# Altium integrated library TI Data Converters Digital to Analog Converter.IntLib: 1533 symbols (part 16 of 99)
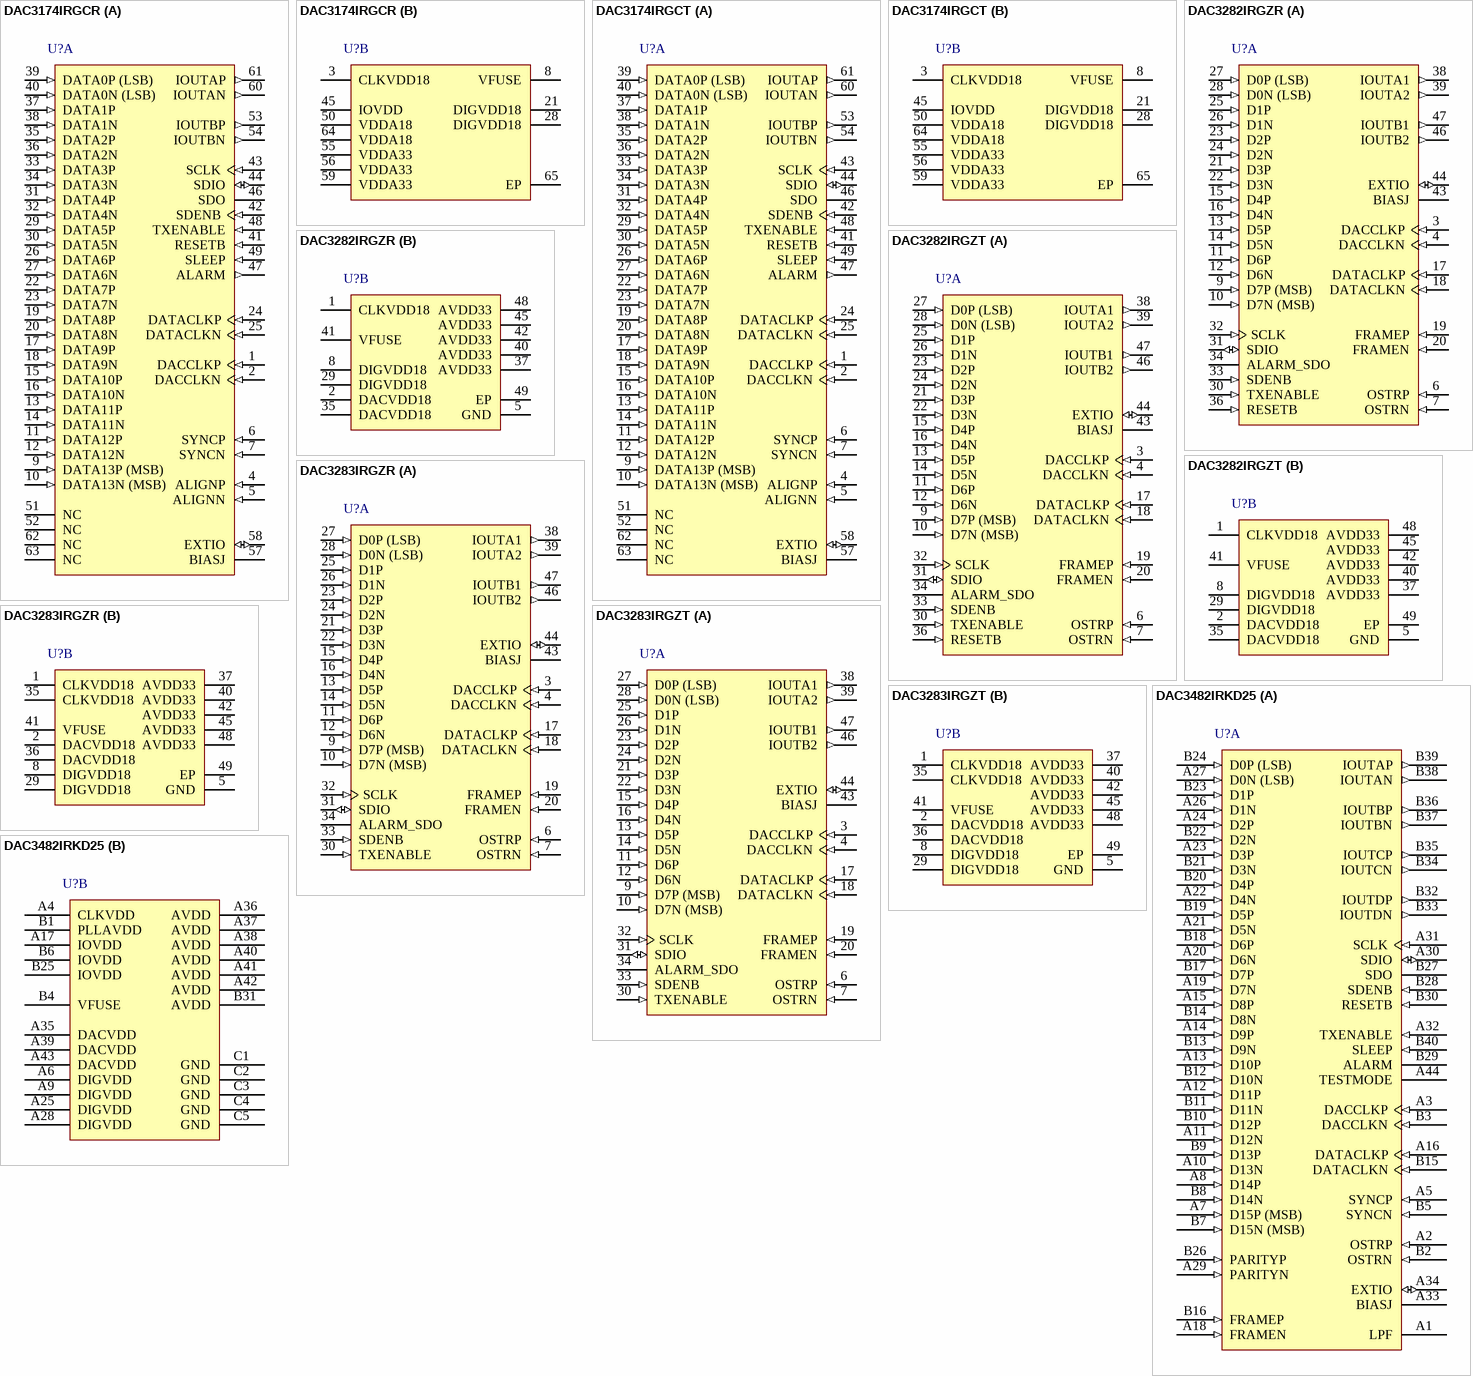
[diagram p88: symbols DAC3174IRGCR to DAC3482IRKD25]

## DAC3283IRGZR
designator U?
Dual 16-Bit 800 MSPS Communications DAC, -40 to 85 degC, 48-pin QFN (RGZ48), Green (RoHS & no Sb/Br); Manufacturer: Texas Instruments; PartNumber: DAC3283IRGZR; DAC Channels: 2; Interface: Parallel LVDS; Power Consumption(Typ)(mW): 1300; Resolution(Bits): 16; Settling Time(us): 0.0104; SFDR(dB): 85; SubFamily: High Speed DAC (>10MSPS); DatasheetVersion: SLAS693B; PackageVersion: 4204101/F, 06/2011; PackageReference: RGZ48-5600X5600TP; PackageDescription: 48-Lead, Plastic Flat Pack, Body Size 7 x 7 mm, Pitch 0.5 mm; Supplier 1: Digi-Key; Supplier Part Number 1: DAC3283IRGZR-ND; Supplier 2: Mouser; Supplier Part Number 2: 595-DAC3283IRGZR; Eco-Plan: Green (RoHS & no Sb/Br); Mounting Technology: Surface Mount; Code_JEDEC: MO-220; ComponentLink1Description: Manufacturer URL; ComponentLink1URL: http://www.ti.com/; ComponentLink2Description: Datasheet; ComponentLink2URL: http://www.ti.com/general/docs/lit/getliterature.tsp?genericPartNumber=DAC3283&fileType=pdf; ComponentLink3Description: Package Specification; ComponentLink3URL: http://www.ti.com/lit/ml/mpqf123e/mpqf123e.pdf
footprint TI-RGZ48-5600X5600TP_V (QFN, 48-Leads, Body 7x7mm, Pitch 0.5mm, Thermal Pad 5.6x5.6mm)
part A pins: 3 DACCLKP (in) "Positive external LVPECL clock input for DAC core with a self-bias of approximately CLKVDD18/2.", 4 DACCLKN (in) "Complementary external LVPECL clock input for DAC core. (see the DACCLKP description)", 6 OSTRP (in) "LVPECL output strobe positive input. This positive/negative pair is captured with the rising edge of DACCLKP/N. It is used to reset the clock dividers and for multiple DAC synchronization. If unused it can be left floating.", 7 OSTRN (in) "LVPECL output strobe negative input. (See the OSTRP description)", 9 D7P (MSB) (in) "LVDS positive input data bits 0 through 7. Each positive/negative LVDS pair has an internal 100 ohm termination resistor. Data format relative to DATACLKP/N clock is Double Data Rate (DDR) with two data transfers per (See Datasheet)", 10 D7N (MSB) (in) "LVDS negative input data bits 0 through 15. (See D[7:0]P description above) D7N is most significant data bit (MSB) - pin 10 D0N is least significant data bit (LSB) - pin 28", 11 D6P (in) "LVDS positive input data bits 0 through 7. Each positive/negative LVDS pair has an internal 100 ohm termination resistor. Data format relative to DATACLKP/N clock is Double Data Rate (DDR) with two data transfers per (See Datasheet)", 12 D6N (in) "LVDS negative input data bits 0 through 15. (See D[7:0]P description above) D7N is most significant data bit (MSB) - pin 10 D0N is least significant data bit (LSB) - pin 28", 13 D5P (in) "LVDS positive input data bits 0 through 7. Each positive/negative LVDS pair has an internal 100 ohm termination resistor. Data format relative to DATACLKP/N clock is Double Data Rate (DDR) with two data transfers per (See Datasheet)", 14 D5N (in) "LVDS negative input data bits 0 through 15. (See D[7:0]P description above) D7N is most significant data bit (MSB) - pin 10 D0N is least significant data bit (LSB) - pin 28", 15 D4P (in) "LVDS positive input data bits 0 through 7. Each positive/negative LVDS pair has an internal 100 ohm termination resistor. Data format relative to DATACLKP/N clock is Double Data Rate (DDR) with two data transfers per (See Datasheet)", 16 D4N (in) "LVDS negative input data bits 0 through 15. (See D[7:0]P description above) D7N is most significant data bit (MSB) - pin 10 D0N is least significant data bit (LSB) - pin 28", 17 DATACLKP (in) "LVDS positive input data clock. This positive/negative pair has an internal 100 ohm termination resistor. Input data D[7:0]P/N is latched on both edges of DATACLKP/N (Double Data Rate) with two data transfers input per (See Datasheet)", 18 DATACLKN (in) "LVDS negative input data clock. (See DATACLKP description)", 19 FRAMEP (in) "LVDS frame indicator positive input. This positive/negative pair has an internal 100 ohm termination resistor. This signal is captured with the rising edge of DATACLKP/N and used to indicate the beginning of the frame. It is (See Datasheet)", 20 FRAMEN (in) "LVDS frame indicator negative input. (See the FRAMEN description)", 21 D3P (in) "LVDS positive input data bits 0 through 7. Each positive/negative LVDS pair has an internal 100 ohm termination resistor. Data format relative to DATACLKP/N clock is Double Data Rate (DDR) with two data transfers per (See Datasheet)", 22 D3N (in) "LVDS negative input data bits 0 through 15. (See D[7:0]P description above) D7N is most significant data bit (MSB) - pin 10 D0N is least significant data bit (LSB) - pin 28", 23 D2P (in) "LVDS positive input data bits 0 through 7. Each positive/negative LVDS pair has an internal 100 ohm termination resistor. Data format relative to DATACLKP/N clock is Double Data Rate (DDR) with two data transfers per (See Datasheet)", 24 D2N (in) "LVDS negative input data bits 0 through 15. (See D[7:0]P description above) D7N is most significant data bit (MSB) - pin 10 D0N is least significant data bit (LSB) - pin 28", 25 D1P (in) "LVDS positive input data bits 0 through 7. Each positive/negative LVDS pair has an internal 100 ohm termination resistor. Data format relative to DATACLKP/N clock is Double Data Rate (DDR) with two data transfers per (See Datasheet)", 26 D1N (in) "LVDS negative input data bits 0 through 15. (See D[7:0]P description above) D7N is most significant data bit (MSB) - pin 10 D0N is least significant data bit (LSB) - pin 28", 27 D0P (LSB) (in) "LVDS positive input data bits 0 through 7. Each positive/negative LVDS pair has an internal 100 ohm termination resistor. Data format relative to DATACLKP/N clock is Double Data Rate (DDR) with two data transfers per (See Datasheet)", 28 D0N (LSB) (in) "LVDS negative input data bits 0 through 15. (See D[7:0]P description above) D7N is most significant data bit (MSB) - pin 10 D0N is least significant data bit (LSB) - pin 28", 30 TXENABLE (in) "1.8V CMOS active high input. TXENABLE must be high for the DATA to the DAC to be enabled. When TXENABLE is low, the digital logic section is forced to all 0, and any input data is ignored. Internal pull-down.", 31 SDIO (io) "1.8V CMOS serial interface data. Bi-directional in 3-pin mode (default) and 4-pin mode. Internal pull-down.", 32 SCLK (in) "1.8V CMOS serial interface clock. Internal pull-down.", 33 SDENB (in) "1.8V CMOS active low serial data enable, always an input to the DAC3282. Internal pull-up.", 34 ALARM_SDO (hiz) "1.8V CMOS output for ALARM condition. The ALARM output functionality is defined through the CONFIG6 register. Default polarity is active low, but can be changed to active high via CONFIG0 alarm_pol control bit. Optionally, (See Datasheet)", 38 IOUTA1 (out) "A-Channel DAC current output. An offset binary data pattern of 0x0000 at the DAC input results in a full scale current sink and the least positive voltage on the IOUTA1 pin. Similarly, a 0xFFFF data input results in a 0 mA (See Datasheet)", 39 IOUTA2 (out) "A-Channel DAC complementary current output. The IOUTA2 has the opposite behavior of the IOUTA1 described above. An input data value of 0x0000 results in a 0 mA sink and the most positive voltage on the IOUTA2 pin", 43 BIASJ "Full-scale output current bias. For 20mA full-scale output current, connect a 960 ohm resistor to GND.", 44 EXTIO (io) "Used as external reference input when internal reference is disabled through CONFIG25 extref_ena = ‘1’. Used as internal reference output when CONFIG25 extref_ena = ‘0’ (default). Requires a 0.1 uF dec(See Datasheet)", 46 IOUTB2 (out) "B-Channel DAC current output. Refer to IOUTA1 description above.", 47 IOUTB1 (out) "B-Channel DAC complementary current output. Refer to IOUTA2 description above."
part B pins: 1 CLKVDD18 (power) "Internal clock buffer supply voltage. (1.8 V) It is recommended to isolate this supply from DACVDD18 and DIGVDD18.", 2 DACVDD18 (power) "DAC core supply voltage. (1.8 V) It is recommended to isolate this supply from CLKVDD18 and DIGVDD18.", 5 GND (power) "Pin 5 and the Thermal Pad located on the bottom of the QFN package is ground for all supplies.", 8 DIGVDD18 (power) "Digital supply voltage. (1.8V) It is recommended to isolate this supply from CLKVDD18 and DACVDD18", 29 DIGVDD18 (power) "Digital supply voltage. (1.8V) It is recommended to isolate this supply from CLKVDD18 and DACVDD18", 35 CLKVDD18 (power) "Internal clock buffer supply voltage. (1.8 V) It is recommended to isolate this supply from DACVDD18 and DIGVDD18.", 36 DACVDD18 (power) "DAC core supply voltage. (1.8 V) It is recommended to isolate this supply from CLKVDD18 and DIGVDD18", 37 AVDD33 (power) "Analog supply voltage. (3.3 V)", 40 AVDD33 (power) "Analog supply voltage. (3.3 V)", 41 VFUSE (power) "Digital supply voltage. (1.8V) This supply pin is also used for factory fuse programming. Connect to DACVDD18 pins for normal operation.", 42 AVDD33 (power) "Analog supply voltage. (3.3 V)", 45 AVDD33 (power) "Analog supply voltage. (3.3 V)", 48 AVDD33 (power) "Analog supply voltage. (3.3 V)", 49 EP (power) "Pin 5 and the Thermal Pad located on the bottom of the QFN package is ground for all supplies."

## DAC3283IRGZT
designator U?
Dual 16-Bit 800 MSPS Communications DAC, -40 to 85 degC, 48-pin QFN (RGZ48), Green (RoHS & no Sb/Br); Manufacturer: Texas Instruments; PartNumber: DAC3283IRGZT; DAC Channels: 2; Interface: Parallel LVDS; Power Consumption(Typ)(mW): 1300; Resolution(Bits): 16; Settling Time(us): 0.0104; SFDR(dB): 85; SubFamily: High Speed DAC (>10MSPS); DatasheetVersion: SLAS693B; PackageVersion: 4204101/F, 06/2011; PackageReference: RGZ48-5600X5600TP; PackageDescription: 48-Lead, Plastic Flat Pack, Body Size 7 x 7 mm, Pitch 0.5 mm; Supplier 1: Digi-Key; Supplier Part Number 1: 296-27251-2-ND; Supplier 2: Digi-Key; Supplier Part Number 2: 296-27251-1-ND; Supplier 3: Digi-Key; Supplier Part Number 3: 296-27251-6-ND; Supplier 4: Farnell; Supplier Part Number 4: 1815785; Supplier 5: Newark; Supplier Part Number 5: 74R0559; Supplier 6: Mouser; Supplier Part Number 6: 595-DAC3283IRGZT; Eco-Plan: Green (RoHS & no Sb/Br); Mounting Technology: Surface Mount; Code_JEDEC: MO-220; ComponentLink1Description: Manufacturer URL; ComponentLink1URL: http://www.ti.com/; ComponentLink2Description: Datasheet; ComponentLink2URL: http://www.ti.com/general/docs/lit/getliterature.tsp?genericPartNumber=DAC3283&fileType=pdf; ComponentLink3Description: Package Specification; ComponentLink3URL: http://www.ti.com/lit/ml/mpqf123e/mpqf123e.pdf
footprint TI-RGZ48-5600X5600TP_V (QFN, 48-Leads, Body 7x7mm, Pitch 0.5mm, Thermal Pad 5.6x5.6mm)
part A pins: 3 DACCLKP (in) "Positive external LVPECL clock input for DAC core with a self-bias of approximately CLKVDD18/2.", 4 DACCLKN (in) "Complementary external LVPECL clock input for DAC core. (see the DACCLKP description)", 6 OSTRP (in) "LVPECL output strobe positive input. This positive/negative pair is captured with the rising edge of DACCLKP/N. It is used to reset the clock dividers and for multiple DAC synchronization. If unused it can be left floating.", 7 OSTRN (in) "LVPECL output strobe negative input. (See the OSTRP description)", 9 D7P (MSB) (in) "LVDS positive input data bits 0 through 7. Each positive/negative LVDS pair has an internal 100 ohm termination resistor. Data format relative to DATACLKP/N clock is Double Data Rate (DDR) with two data transfers per (See Datasheet)", 10 D7N (MSB) (in) "LVDS negative input data bits 0 through 15. (See D[7:0]P description above) D7N is most significant data bit (MSB) - pin 10 D0N is least significant data bit (LSB) - pin 28", 11 D6P (in) "LVDS positive input data bits 0 through 7. Each positive/negative LVDS pair has an internal 100 ohm termination resistor. Data format relative to DATACLKP/N clock is Double Data Rate (DDR) with two data transfers per (See Datasheet)", 12 D6N (in) "LVDS negative input data bits 0 through 15. (See D[7:0]P description above) D7N is most significant data bit (MSB) - pin 10 D0N is least significant data bit (LSB) - pin 28", 13 D5P (in) "LVDS positive input data bits 0 through 7. Each positive/negative LVDS pair has an internal 100 ohm termination resistor. Data format relative to DATACLKP/N clock is Double Data Rate (DDR) with two data transfers per (See Datasheet)", 14 D5N (in) "LVDS negative input data bits 0 through 15. (See D[7:0]P description above) D7N is most significant data bit (MSB) - pin 10 D0N is least significant data bit (LSB) - pin 28", 15 D4P (in) "LVDS positive input data bits 0 through 7. Each positive/negative LVDS pair has an internal 100 ohm termination resistor. Data format relative to DATACLKP/N clock is Double Data Rate (DDR) with two data transfers per (See Datasheet)", 16 D4N (in) "LVDS negative input data bits 0 through 15. (See D[7:0]P description above) D7N is most significant data bit (MSB) - pin 10 D0N is least significant data bit (LSB) - pin 28", 17 DATACLKP (in) "LVDS positive input data clock. This positive/negative pair has an internal 100 ohm termination resistor. Input data D[7:0]P/N is latched on both edges of DATACLKP/N (Double Data Rate) with two data transfers input per (See Datasheet)", 18 DATACLKN (in) "LVDS negative input data clock. (See DATACLKP description)", 19 FRAMEP (in) "LVDS frame indicator positive input. This positive/negative pair has an internal 100 ohm termination resistor. This signal is captured with the rising edge of DATACLKP/N and used to indicate the beginning of the frame. It is (See Datasheet)", 20 FRAMEN (in) "LVDS frame indicator negative input. (See the FRAMEN description)", 21 D3P (in) "LVDS positive input data bits 0 through 7. Each positive/negative LVDS pair has an internal 100 ohm termination resistor. Data format relative to DATACLKP/N clock is Double Data Rate (DDR) with two data transfers per (See Datasheet)", 22 D3N (in) "LVDS negative input data bits 0 through 15. (See D[7:0]P description above) D7N is most significant data bit (MSB) - pin 10 D0N is least significant data bit (LSB) - pin 28", 23 D2P (in) "LVDS positive input data bits 0 through 7. Each positive/negative LVDS pair has an internal 100 ohm termination resistor. Data format relative to DATACLKP/N clock is Double Data Rate (DDR) with two data transfers per (See Datasheet)", 24 D2N (in) "LVDS negative input data bits 0 through 15. (See D[7:0]P description above) D7N is most significant data bit (MSB) - pin 10 D0N is least significant data bit (LSB) - pin 28", 25 D1P (in) "LVDS positive input data bits 0 through 7. Each positive/negative LVDS pair has an internal 100 ohm termination resistor. Data format relative to DATACLKP/N clock is Double Data Rate (DDR) with two data transfers per (See Datasheet)", 26 D1N (in) "LVDS negative input data bits 0 through 15. (See D[7:0]P description above) D7N is most significant data bit (MSB) - pin 10 D0N is least significant data bit (LSB) - pin 28", 27 D0P (LSB) (in) "LVDS positive input data bits 0 through 7. Each positive/negative LVDS pair has an internal 100 ohm termination resistor. Data format relative to DATACLKP/N clock is Double Data Rate (DDR) with two data transfers per (See Datasheet)", 28 D0N (LSB) (in) "LVDS negative input data bits 0 through 15. (See D[7:0]P description above) D7N is most significant data bit (MSB) - pin 10 D0N is least significant data bit (LSB) - pin 28", 30 TXENABLE (in) "1.8V CMOS active high input. TXENABLE must be high for the DATA to the DAC to be enabled. When TXENABLE is low, the digital logic section is forced to all 0, and any input data is ignored. Internal pull-down.", 31 SDIO (io) "1.8V CMOS serial interface data. Bi-directional in 3-pin mode (default) and 4-pin mode. Internal pull-down.", 32 SCLK (in) "1.8V CMOS serial interface clock. Internal pull-down.", 33 SDENB (in) "1.8V CMOS active low serial data enable, always an input to the DAC3282. Internal pull-up.", 34 ALARM_SDO (hiz) "1.8V CMOS output for ALARM condition. The ALARM output functionality is defined through the CONFIG6 register. Default polarity is active low, but can be changed to active high via CONFIG0 alarm_pol control bit. Optionally, (See Datasheet)", 38 IOUTA1 (out) "A-Channel DAC current output. An offset binary data pattern of 0x0000 at the DAC input results in a full scale current sink and the least positive voltage on the IOUTA1 pin. Similarly, a 0xFFFF data input results in a 0 mA (See Datasheet)", 39 IOUTA2 (out) "A-Channel DAC complementary current output. The IOUTA2 has the opposite behavior of the IOUTA1 described above. An input data value of 0x0000 results in a 0 mA sink and the most positive voltage on the IOUTA2 pin", 43 BIASJ "Full-scale output current bias. For 20mA full-scale output current, connect a 960 ohm resistor to GND.", 44 EXTIO (io) "Used as external reference input when internal reference is disabled through CONFIG25 extref_ena = ‘1’. Used as internal reference output when CONFIG25 extref_ena = ‘0’ (default). Requires a 0.1 uF dec(See Datasheet)", 46 IOUTB2 (out) "B-Channel DAC current output. Refer to IOUTA1 description above.", 47 IOUTB1 (out) "B-Channel DAC complementary current output. Refer to IOUTA2 description above."
part B pins: 1 CLKVDD18 (power) "Internal clock buffer supply voltage. (1.8 V) It is recommended to isolate this supply from DACVDD18 and DIGVDD18.", 2 DACVDD18 (power) "DAC core supply voltage. (1.8 V) It is recommended to isolate this supply from CLKVDD18 and DIGVDD18.", 5 GND (power) "Pin 5 and the Thermal Pad located on the bottom of the QFN package is ground for all supplies.", 8 DIGVDD18 (power) "Digital supply voltage. (1.8V) It is recommended to isolate this supply from CLKVDD18 and DACVDD18", 29 DIGVDD18 (power) "Digital supply voltage. (1.8V) It is recommended to isolate this supply from CLKVDD18 and DACVDD18", 35 CLKVDD18 (power) "Internal clock buffer supply voltage. (1.8 V) It is recommended to isolate this supply from DACVDD18 and DIGVDD18.", 36 DACVDD18 (power) "DAC core supply voltage. (1.8 V) It is recommended to isolate this supply from CLKVDD18 and DIGVDD18", 37 AVDD33 (power) "Analog supply voltage. (3.3 V)", 40 AVDD33 (power) "Analog supply voltage. (3.3 V)", 41 VFUSE (power) "Digital supply voltage. (1.8V) This supply pin is also used for factory fuse programming. Connect to DACVDD18 pins for normal operation.", 42 AVDD33 (power) "Analog supply voltage. (3.3 V)", 45 AVDD33 (power) "Analog supply voltage. (3.3 V)", 48 AVDD33 (power) "Analog supply voltage. (3.3 V)", 49 EP (power) "Pin 5 and the Thermal Pad located on the bottom of the QFN package is ground for all supplies."

## DAC3482IRKD25
designator U?
2-Channel 16-Bit 1.25 GSPS DAC, -40 to 85 degC, 88-pin QFN (RKD88), Green (RoHS & no Sb/Br); Manufacturer: Texas Instruments; PartNumber: DAC3482IRKD25; DAC Channels: 2; Interface: Parallel LVDS; Power Consumption(Typ)(mW): 800; Resolution(Bits): 16; Settling Time(us): 0.01; SFDR(dB): 82; SubFamily: High Speed DAC (>10MSPS); DatasheetVersion: SLAS748D; PackageVersion: 4210251/A, 04/2009; PackageReference: RKD88-6300X6300TP; PackageDescription: 88-Pin Plastic Quad Flatpack No-Lead, Body 9 x 9 mm, Pitch 0.6 mm; Supplier 1: Digi-Key; Supplier Part Number 1: 296-30057-2-ND; Supplier 2: Digi-Key; Supplier Part Number 2: 296-30057-1-ND; Supplier 3: Digi-Key; Supplier Part Number 3: 296-30057-6-ND; Supplier 4: Mouser; Supplier Part Number 4: 595-DAC3482IRKD25; Eco-Plan: Green (RoHS & no Sb/Br); Mounting Technology: Surface Mount; ComponentLink1Description: Manufacturer URL; ComponentLink1URL: http://www.ti.com/; ComponentLink2Description: Datasheet; ComponentLink2URL: http://www.ti.com/general/docs/lit/getliterature.tsp?genericPartNumber=DAC3482&fileType=pdf; ComponentLink3Description: Package Specification; ComponentLink3URL: http://www.ti.com/litv/pdf/mpqf242
footprint TI-RKD88-6300X6300TP_V (QFN, 88-Leads, Body 9x9mm, Pitch 0.6mm, Thermal Pad 6.3x6.3mm)
part A pins: A1 LPF "PLL loop filter connection. If not using the clock multiplying PLL, the LPF pin can be left unconnected.", A2 OSTRP (in) "LVPECL output strobe positive input. This positive/negative pair is captured with the rising edge of DACCLKP/N. It is used for multiple DAC synchronization. If unused it can be left unconnected.", A3 DACCLKP (in) "Positive external LVPECL clock input for DAC core with a self-bias.", A5 SYNCP (in) "Optional LVDS SYNC positive input. The SYNCP/N LVDS pair has an internal 100 ohm termination resistor. If unused it can be left unconnected.", A7 D15P (MSB) (in) "LVDS positive input data bits 0 through 15. Internal 100 ohm termination resistor. Data format relative to DATACLKP/N clock is Double Data Rate (DDR). D15P is most significant data bit (MSB) D0P is least significant data bit (See Datasheet)", A8 D14P (in) "LVDS positive input data bits 0 through 15. Internal 100 ohm termination resistor. Data format relative to DATACLKP/N clock is Double Data Rate (DDR). D15P is most significant data bit (MSB) D0P is least significant data bit (See Datasheet)", A10 D13N (in) "LVDS negative input data bits 0 through 15. (See D[15:0]P description above)", A11 D12N (in) "LVDS negative input data bits 0 through 15. (See D[15:0]P description above)", A12 D11P (in) "LVDS positive input data bits 0 through 15. Internal 100 ohm termination resistor. Data format relative to DATACLKP/N clock is Double Data Rate (DDR). D15P is most significant data bit (MSB) D0P is least significant data bit (See Datasheet)", A13 D10P (in) "LVDS positive input data bits 0 through 15. Internal 100 ohm termination resistor. Data format relative to DATACLKP/N clock is Double Data Rate (DDR). D15P is most significant data bit (MSB) D0P is least significant data bit (See Datasheet)", A14 D9P (in) "LVDS positive input data bits 0 through 15. Internal 100 ohm termination resistor. Data format relative to DATACLKP/N clock is Double Data Rate (DDR). D15P is most significant data bit (MSB) D0P is least significant data bit (See Datasheet)", A15 D8P (in) "LVDS positive input data bits 0 through 15. Internal 100 ohm termination resistor. Data format relative to DATACLKP/N clock is Double Data Rate (DDR). D15P is most significant data bit (MSB) D0P is least significant data bit (See Datasheet)", A16 DATACLKP (in) "LVDS positive input data clock. Internal 100 ohm termination resistor. Input data D[15:0]P/N is latched on both edges of DATACLKP/N (Double Data Rate).", A18 FRAMEN (in) "LVDS frame indicator negative input. (See the FRAMEP description)", A19 D7N (in) "LVDS negative input data bits 0 through 15. (See D[15:0]P description above)", A20 D6N (in) "LVDS negative input data bits 0 through 15. (See D[15:0]P description above)", A21 D5N (in) "LVDS negative input data bits 0 through 15. (See D[15:0]P description above)", A22 D4N (in) "LVDS negative input data bits 0 through 15. (See D[15:0]P description above)", A23 D3P (in) "LVDS positive input data bits 0 through 15. Internal 100 ohm termination resistor. Data format relative to DATACLKP/N clock is Double Data Rate (DDR). D15P is most significant data bit (MSB) D0P is least significant data bit (See Datasheet)", A24 D2P (in) "LVDS positive input data bits 0 through 15. Internal 100 ohm termination resistor. Data format relative to DATACLKP/N clock is Double Data Rate (DDR). D15P is most significant data bit (MSB) D0P is least significant data bit (See Datasheet)", A26 D1N (in) "LVDS negative input data bits 0 through 15. (See D[15:0]P description above)", A27 D0N (LSB) (in) "LVDS negative input data bits 0 through 15. (See D[15:0]P description above)", A29 PARITYN (in) "Optional LVDS negative input parity bit.", A30 SDIO (io) "Serial interface data. Bi-directional in 3-pin mode (default) and uni-directional 4-pin mode. Internal pull-down.", A31 SCLK (in) "Serial interface clock. Internal pull-down.", A32 TXENABLE (in) "Transmit enable active high input. Internal pull-down. To enable analog output data transmission, set sif_txenable in register config3 to “1” or pull CMOS TXENABLE pin to high. To disable analog output, set sif_txena(See Datasheet)", A33 BIASJ "Full-scale output current bias. For 30mA full-scale output current, connect 1.28 kohm to ground. Change the full-scale output current through coarse_dac(3:0) in config3, bit<15:12>", A34 EXTIO (io) "Used as external reference input when internal reference is disabled through config27 extref_ena = ‘1’. Used as internal reference output when config27 extref_ena = ‘0’ (default). Requires a 0.1 uF dec(See Datasheet)", A44 TESTMODE "This pin is used for factory testing. Internal pull-down. Leave unconnected for normal operation.", B2 OSTRN (in) "LVPECL output strobe negative input. (See the OSTRP description)", B3 DACCLKN (in) "Complementary external LVPECL clock input for DAC core. (see the DACCLKP description)", B5 SYNCN (in) "Optional LVDS SYNC negative input.", B7 D15N (MSB) (in) "LVDS negative input data bits 0 through 15. (See D[15:0]P description above)", B8 D14N (in) "LVDS negative input data bits 0 through 15. (See D[15:0]P description above)", B9 D13P (in) "LVDS positive input data bits 0 through 15. Internal 100 ohm termination resistor. Data format relative to DATACLKP/N clock is Double Data Rate (DDR). D15P is most significant data bit (MSB) D0P is least significant data bit (See Datasheet)", B10 D12P (in) "LVDS positive input data bits 0 through 15. Internal 100 ohm termination resistor. Data format relative to DATACLKP/N clock is Double Data Rate (DDR). D15P is most significant data bit (MSB) D0P is least significant data bit (See Datasheet)", B11 D11N (in) "LVDS negative input data bits 0 through 15. (See D[15:0]P description above)", B12 D10N (in) "LVDS negative input data bits 0 through 15. (See D[15:0]P description above)", B13 D9N (in) "LVDS negative input data bits 0 through 15. (See D[15:0]P description above)", B14 D8N (in) "LVDS negative input data bits 0 through 15. (See D[15:0]P description above)", B15 DATACLKN (in) "LVDS negative input data clock. (See DATACLKP description)", B16 FRAMEP (in) "LVDS frame indicator positive input. Internal 100 ohm termination resistor. The main functions of this input are to reset the FIFO pointer or to be used as a syncing source. These two functions are captured with the rising (See Datasheet)", B17 D7P (in) "LVDS positive input data bits 0 through 15. Internal 100 ohm termination resistor. Data format relative to DATACLKP/N clock is Double Data Rate (DDR). D15P is most significant data bit (MSB) D0P is least significant data bit (See Datasheet)", B18 D6P (in) "LVDS positive input data bits 0 through 15. Internal 100 ohm termination resistor. Data format relative to DATACLKP/N clock is Double Data Rate (DDR). D15P is most significant data bit (MSB) D0P is least significant data bit (See Datasheet)", B19 D5P (in) "LVDS positive input data bits 0 through 15. Internal 100 ohm termination resistor. Data format relative to DATACLKP/N clock is Double Data Rate (DDR). D15P is most significant data bit (MSB) D0P is least significant data bit (See Datasheet)", B20 D4P (in) "LVDS positive input data bits 0 through 15. Internal 100 ohm termination resistor. Data format relative to DATACLKP/N clock is Double Data Rate (DDR). D15P is most significant data bit (MSB) D0P is least significant data bit (See Datasheet)", B21 D3N (in) "LVDS negative input data bits 0 through 15. (See D[15:0]P description above)", B22 D2N (in) "LVDS negative input data bits 0 through 15. (See D[15:0]P description above)", B23 D1P (in) "LVDS positive input data bits 0 through 15. Internal 100 ohm termination resistor. Data format relative to DATACLKP/N clock is Double Data Rate (DDR). D15P is most significant data bit (MSB) D0P is least significant data bit (See Datasheet)", B24 D0P (LSB) (in) "LVDS positive input data bits 0 through 15. Internal 100 ohm termination resistor. Data format relative to DATACLKP/N clock is Double Data Rate (DDR). D15P is most significant data bit (MSB) D0P is least significant data bit (See Datasheet)", B26 PARITYP (in) "Optional LVDS positive input parity bit. The PARITYP/N LVDS pair has an internal 100 ohm termination resistor. If unused it can be left unconnected.", B27 SDO (hiz) "Uni-directional serial interface data in 4-pin mode. The SDO pin is tri-stated in 3-pin interface mode (default).", B28 SDENB (in) "Active low serial data enable, always an input to the DAC3484. Internal pull-up.", B29 ALARM (hiz) "CMOS output for ALARM condition. The ALARM output functionality is defined through the config7 register. Default polarity is active high, but can be changed to active low via config0 alarm_out_pol control bit", B30 RESETB (in) "Active low input for chip RESET, which resets all the programming registers to their default state. Internal pull-up.", B32 IOUTDP (out) "D-Channel DAC current output. Connect directly to ground if unused.", B33 IOUTDN (out) "D-Channel DAC complementary current output. Connect directly to ground if unused.", B34 IOUTCN (out) "C-Channel DAC complementary current output. Connect directly to ground if unused.", B35 IOUTCP (out) "C-Channel DAC current output. Connect directly to ground if unused.", B36 IOUTBP (out) "B-Channel DAC current output. Connect directly to ground if unused.", B37 IOUTBN (out) "B-Channel DAC complementary current output. Connect directly to ground if unused.", B38 IOUTAN (out) "A-Channel DAC complementary current output. Connect directly to ground if unused.", B39 IOUTAP (out) "A-Channel DAC current output. Connect directly to ground if unused.", B40 SLEEP (in) "Active high asynchronous hardware power-down input. Internal pull-down."
part B pins: A4 CLKVDD (power) "Internal clock buffer supply voltage. (1.2 V) It is recommended to isolate this supply from DIGVDD and DACVDD.", A6 DIGVDD (power) "Digital supply voltage. (1.2 V). It is recommended to isolate this supply from CLKVDD and DACVDD.", A9 DIGVDD (power) "Digital supply voltage. (1.2 V). It is recommended to isolate this supply from CLKVDD and DACVDD.", A17 IOVDD (power) "Supply voltage for all digital I/O. (3.3 V)", A25 DIGVDD (power) "Digital supply voltage. (1.2 V). It is recommended to isolate this supply from CLKVDD and DACVDD.", A28 DIGVDD (power) "Digital supply voltage. (1.2 V). It is recommended to isolate this supply from CLKVDD and DACVDD.", A35 DACVDD (power) "DAC core supply voltage. (1.2 V). It is recommended to isolate this supply from CLKVDD and DIGVDD.", A36 AVDD (power) "Analog supply voltage. (3.3 V)", A37 AVDD (power) "Analog supply voltage. (3.3 V)", A38 AVDD (power) "Analog supply voltage. (3.3 V)", A39 DACVDD (power) "DAC core supply voltage. (1.2 V). It is recommended to isolate this supply from CLKVDD and DIGVDD.", A40 AVDD (power) "Analog supply voltage. (3.3 V)", A41 AVDD (power) "Analog supply voltage. (3.3 V)", A42 AVDD (power) "Analog supply voltage. (3.3 V)", A43 DACVDD (power) "DAC core supply voltage. (1.2 V). It is recommended to isolate this supply from CLKVDD and DIGVDD.", B1 PLLAVDD (power) "PLL analog supply voltage. (3.3 V)", B4 VFUSE (power) "Digital supply voltage. This supply pin is also used for factory fuse programming. Connect to DACVDD for normal operation.", B6 IOVDD (power) "Supply voltage for all digital I/O. (3.3 V)", B25 IOVDD (power) "Supply voltage for all digital I/O. (3.3 V)", B31 AVDD (power) "Analog supply voltage. (3.3 V)", C1 GND (power) "These pins are ground for all supplies.", C2 GND (power) "These pins are ground for all supplies.", C3 GND (power) "These pins are ground for all supplies.", C4 GND (power) "These pins are ground for all supplies.", C5 GND (power) "These pins are ground for all supplies."

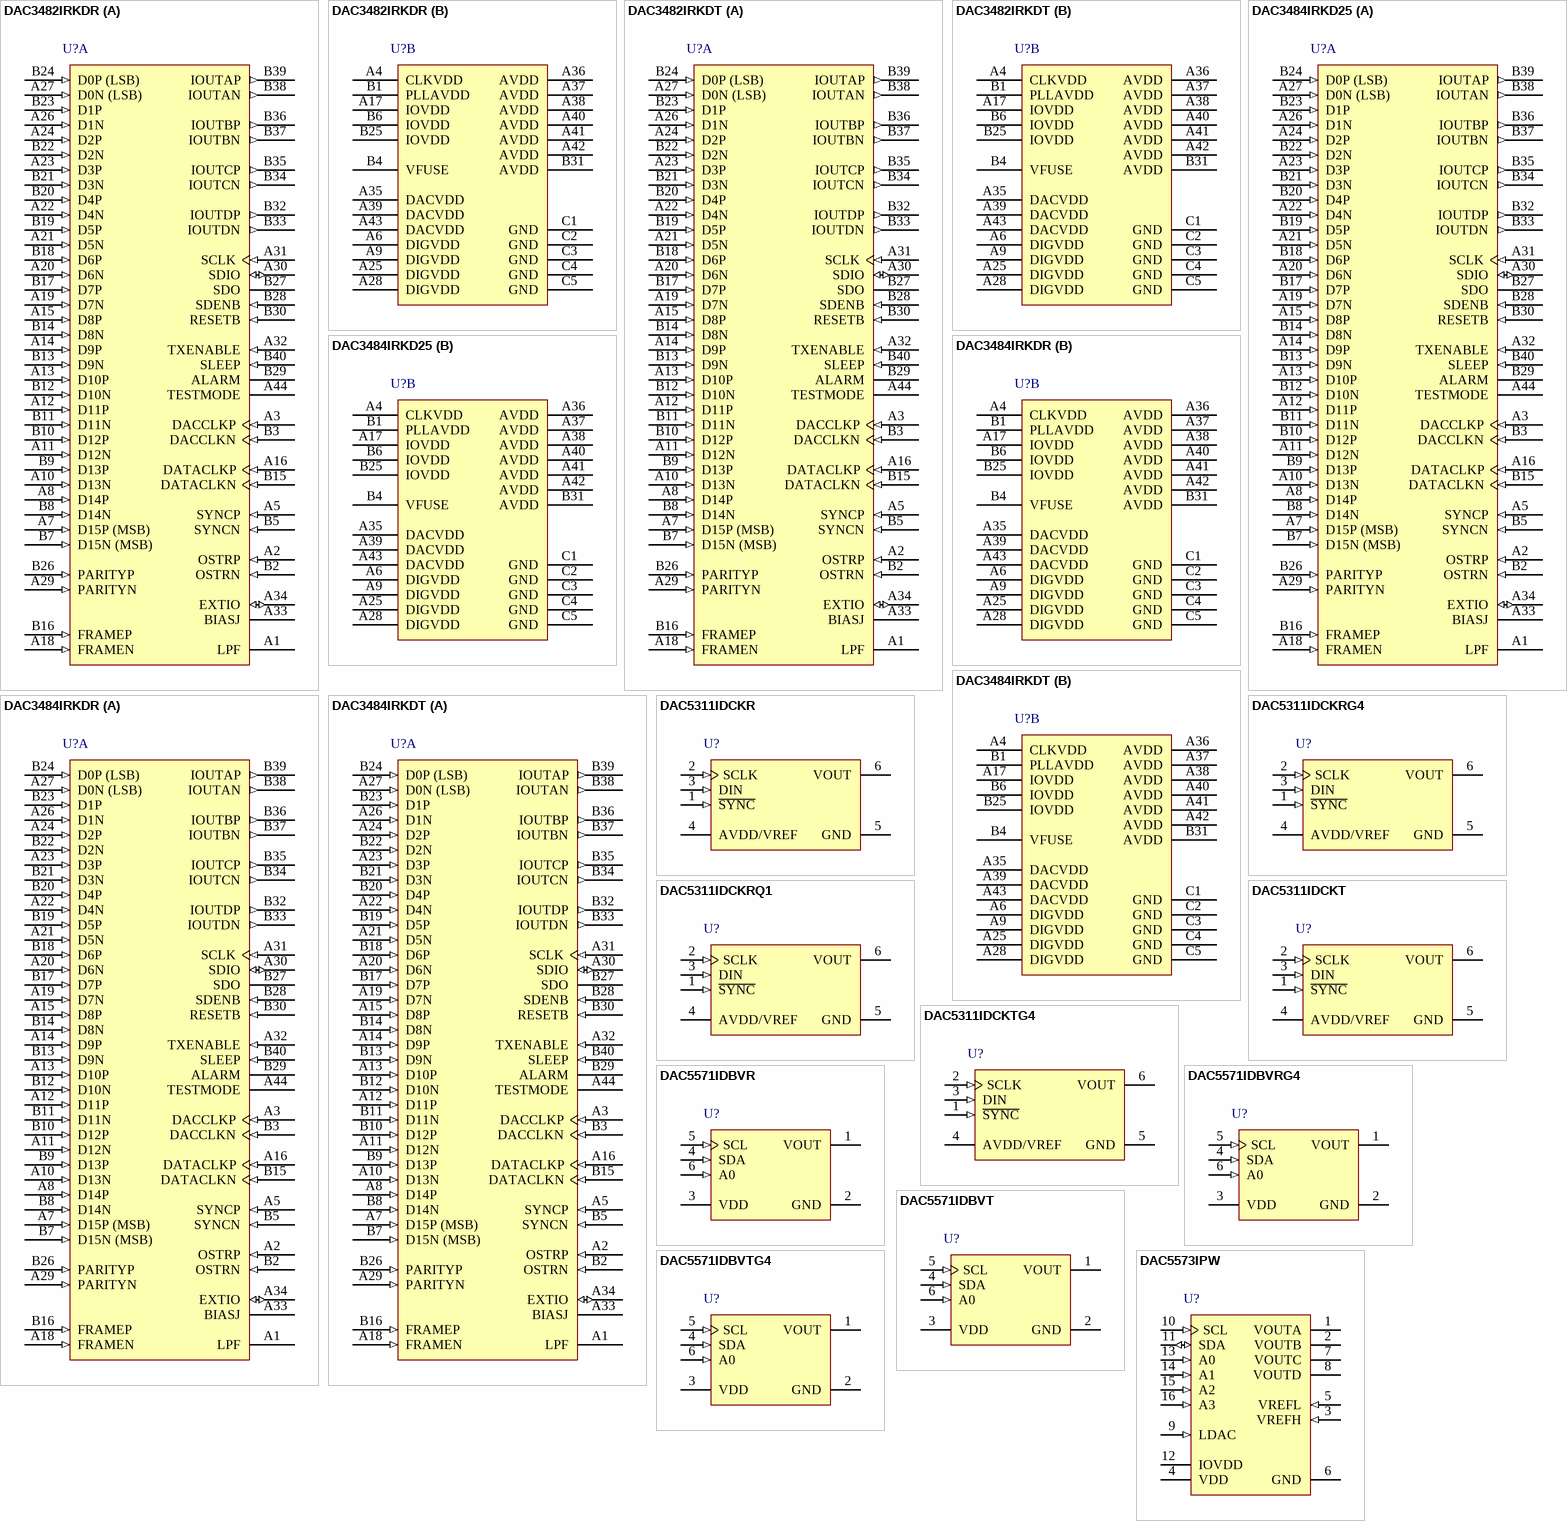
[diagram p13: symbols DAC3482IRKDR to DAC5573IPW]

## DAC3482IRKDR
designator U?
2-Channel 16-Bit 1.25 GSPS DAC, -40 to 85 degC, 88-pin QFN (RKD88), Green (RoHS & no Sb/Br); Manufacturer: Texas Instruments; PartNumber: DAC3482IRKDR; DAC Channels: 2; Interface: Parallel LVDS; Power Consumption(Typ)(mW): 800; Resolution(Bits): 16; Settling Time(us): 0.01; SFDR(dB): 82; SubFamily: High Speed DAC (>10MSPS); DatasheetVersion: SLAS748D; PackageVersion: 4210251/A, 04/2009; PackageReference: RKD88-6300X6300TP; PackageDescription: 88-Pin Plastic Quad Flatpack No-Lead, Body 9 x 9 mm, Pitch 0.6 mm; Supplier 1: Digi-Key; Supplier Part Number 1: DAC3482IRKDR-ND; Supplier 2: Newark; Supplier Part Number 2: 51T1816; Supplier 3: Mouser; Supplier Part Number 3: 595-DAC3482IRKDR; Eco-Plan: Green (RoHS & no Sb/Br); Mounting Technology: Surface Mount; ComponentLink1Description: Manufacturer URL; ComponentLink1URL: http://www.ti.com/; ComponentLink2Description: Datasheet; ComponentLink2URL: http://www.ti.com/general/docs/lit/getliterature.tsp?genericPartNumber=DAC3482&fileType=pdf; ComponentLink3Description: Package Specification; ComponentLink3URL: http://www.ti.com/litv/pdf/mpqf242
footprint TI-RKD88-6300X6300TP_V (QFN, 88-Leads, Body 9x9mm, Pitch 0.6mm, Thermal Pad 6.3x6.3mm)
part A pins: A1 LPF "PLL loop filter connection. If not using the clock multiplying PLL, the LPF pin can be left unconnected.", A2 OSTRP (in) "LVPECL output strobe positive input. This positive/negative pair is captured with the rising edge of DACCLKP/N. It is used for multiple DAC synchronization. If unused it can be left unconnected.", A3 DACCLKP (in) "Positive external LVPECL clock input for DAC core with a self-bias.", A5 SYNCP (in) "Optional LVDS SYNC positive input. The SYNCP/N LVDS pair has an internal 100 ohm termination resistor. If unused it can be left unconnected.", A7 D15P (MSB) (in) "LVDS positive input data bits 0 through 15. Internal 100 ohm termination resistor. Data format relative to DATACLKP/N clock is Double Data Rate (DDR). D15P is most significant data bit (MSB) D0P is least significant data bit (See Datasheet)", A8 D14P (in) "LVDS positive input data bits 0 through 15. Internal 100 ohm termination resistor. Data format relative to DATACLKP/N clock is Double Data Rate (DDR). D15P is most significant data bit (MSB) D0P is least significant data bit (See Datasheet)", A10 D13N (in) "LVDS negative input data bits 0 through 15. (See D[15:0]P description above)", A11 D12N (in) "LVDS negative input data bits 0 through 15. (See D[15:0]P description above)", A12 D11P (in) "LVDS positive input data bits 0 through 15. Internal 100 ohm termination resistor. Data format relative to DATACLKP/N clock is Double Data Rate (DDR). D15P is most significant data bit (MSB) D0P is least significant data bit (See Datasheet)", A13 D10P (in) "LVDS positive input data bits 0 through 15. Internal 100 ohm termination resistor. Data format relative to DATACLKP/N clock is Double Data Rate (DDR). D15P is most significant data bit (MSB) D0P is least significant data bit (See Datasheet)", A14 D9P (in) "LVDS positive input data bits 0 through 15. Internal 100 ohm termination resistor. Data format relative to DATACLKP/N clock is Double Data Rate (DDR). D15P is most significant data bit (MSB) D0P is least significant data bit (See Datasheet)", A15 D8P (in) "LVDS positive input data bits 0 through 15. Internal 100 ohm termination resistor. Data format relative to DATACLKP/N clock is Double Data Rate (DDR). D15P is most significant data bit (MSB) D0P is least significant data bit (See Datasheet)", A16 DATACLKP (in) "LVDS positive input data clock. Internal 100 ohm termination resistor. Input data D[15:0]P/N is latched on both edges of DATACLKP/N (Double Data Rate).", A18 FRAMEN (in) "LVDS frame indicator negative input. (See the FRAMEP description)", A19 D7N (in) "LVDS negative input data bits 0 through 15. (See D[15:0]P description above)", A20 D6N (in) "LVDS negative input data bits 0 through 15. (See D[15:0]P description above)", A21 D5N (in) "LVDS negative input data bits 0 through 15. (See D[15:0]P description above)", A22 D4N (in) "LVDS negative input data bits 0 through 15. (See D[15:0]P description above)", A23 D3P (in) "LVDS positive input data bits 0 through 15. Internal 100 ohm termination resistor. Data format relative to DATACLKP/N clock is Double Data Rate (DDR). D15P is most significant data bit (MSB) D0P is least significant data bit (See Datasheet)", A24 D2P (in) "LVDS positive input data bits 0 through 15. Internal 100 ohm termination resistor. Data format relative to DATACLKP/N clock is Double Data Rate (DDR). D15P is most significant data bit (MSB) D0P is least significant data bit (See Datasheet)", A26 D1N (in) "LVDS negative input data bits 0 through 15. (See D[15:0]P description above)", A27 D0N (LSB) (in) "LVDS negative input data bits 0 through 15. (See D[15:0]P description above)", A29 PARITYN (in) "Optional LVDS negative input parity bit.", A30 SDIO (io) "Serial interface data. Bi-directional in 3-pin mode (default) and uni-directional 4-pin mode. Internal pull-down.", A31 SCLK (in) "Serial interface clock. Internal pull-down.", A32 TXENABLE (in) "Transmit enable active high input. Internal pull-down. To enable analog output data transmission, set sif_txenable in register config3 to “1” or pull CMOS TXENABLE pin to high. To disable analog output, set sif_txena(See Datasheet)", A33 BIASJ "Full-scale output current bias. For 30mA full-scale output current, connect 1.28 kohm to ground. Change the full-scale output current through coarse_dac(3:0) in config3, bit<15:12>", A34 EXTIO (io) "Used as external reference input when internal reference is disabled through config27 extref_ena = ‘1’. Used as internal reference output when config27 extref_ena = ‘0’ (default). Requires a 0.1 uF dec(See Datasheet)", A44 TESTMODE "This pin is used for factory testing. Internal pull-down. Leave unconnected for normal operation.", B2 OSTRN (in) "LVPECL output strobe negative input. (See the OSTRP description)", B3 DACCLKN (in) "Complementary external LVPECL clock input for DAC core. (see the DACCLKP description)", B5 SYNCN (in) "Optional LVDS SYNC negative input.", B7 D15N (MSB) (in) "LVDS negative input data bits 0 through 15. (See D[15:0]P description above)", B8 D14N (in) "LVDS negative input data bits 0 through 15. (See D[15:0]P description above)", B9 D13P (in) "LVDS positive input data bits 0 through 15. Internal 100 ohm termination resistor. Data format relative to DATACLKP/N clock is Double Data Rate (DDR). D15P is most significant data bit (MSB) D0P is least significant data bit (See Datasheet)", B10 D12P (in) "LVDS positive input data bits 0 through 15. Internal 100 ohm termination resistor. Data format relative to DATACLKP/N clock is Double Data Rate (DDR). D15P is most significant data bit (MSB) D0P is least significant data bit (See Datasheet)", B11 D11N (in) "LVDS negative input data bits 0 through 15. (See D[15:0]P description above)", B12 D10N (in) "LVDS negative input data bits 0 through 15. (See D[15:0]P description above)", B13 D9N (in) "LVDS negative input data bits 0 through 15. (See D[15:0]P description above)", B14 D8N (in) "LVDS negative input data bits 0 through 15. (See D[15:0]P description above)", B15 DATACLKN (in) "LVDS negative input data clock. (See DATACLKP description)", B16 FRAMEP (in) "LVDS frame indicator positive input. Internal 100 ohm termination resistor. The main functions of this input are to reset the FIFO pointer or to be used as a syncing source. These two functions are captured with the rising (See Datasheet)", B17 D7P (in) "LVDS positive input data bits 0 through 15. Internal 100 ohm termination resistor. Data format relative to DATACLKP/N clock is Double Data Rate (DDR). D15P is most significant data bit (MSB) D0P is least significant data bit (See Datasheet)", B18 D6P (in) "LVDS positive input data bits 0 through 15. Internal 100 ohm termination resistor. Data format relative to DATACLKP/N clock is Double Data Rate (DDR). D15P is most significant data bit (MSB) D0P is least significant data bit (See Datasheet)", B19 D5P (in) "LVDS positive input data bits 0 through 15. Internal 100 ohm termination resistor. Data format relative to DATACLKP/N clock is Double Data Rate (DDR). D15P is most significant data bit (MSB) D0P is least significant data bit (See Datasheet)", B20 D4P (in) "LVDS positive input data bits 0 through 15. Internal 100 ohm termination resistor. Data format relative to DATACLKP/N clock is Double Data Rate (DDR). D15P is most significant data bit (MSB) D0P is least significant data bit (See Datasheet)", B21 D3N (in) "LVDS negative input data bits 0 through 15. (See D[15:0]P description above)", B22 D2N (in) "LVDS negative input data bits 0 through 15. (See D[15:0]P description above)", B23 D1P (in) "LVDS positive input data bits 0 through 15. Internal 100 ohm termination resistor. Data format relative to DATACLKP/N clock is Double Data Rate (DDR). D15P is most significant data bit (MSB) D0P is least significant data bit (See Datasheet)", B24 D0P (LSB) (in) "LVDS positive input data bits 0 through 15. Internal 100 ohm termination resistor. Data format relative to DATACLKP/N clock is Double Data Rate (DDR). D15P is most significant data bit (MSB) D0P is least significant data bit (See Datasheet)", B26 PARITYP (in) "Optional LVDS positive input parity bit. The PARITYP/N LVDS pair has an internal 100 ohm termination resistor. If unused it can be left unconnected.", B27 SDO (hiz) "Uni-directional serial interface data in 4-pin mode. The SDO pin is tri-stated in 3-pin interface mode (default).", B28 SDENB (in) "Active low serial data enable, always an input to the DAC3484. Internal pull-up.", B29 ALARM (hiz) "CMOS output for ALARM condition. The ALARM output functionality is defined through the config7 register. Default polarity is active high, but can be changed to active low via config0 alarm_out_pol control bit", B30 RESETB (in) "Active low input for chip RESET, which resets all the programming registers to their default state. Internal pull-up.", B32 IOUTDP (out) "D-Channel DAC current output. Connect directly to ground if unused.", B33 IOUTDN (out) "D-Channel DAC complementary current output. Connect directly to ground if unused.", B34 IOUTCN (out) "C-Channel DAC complementary current output. Connect directly to ground if unused.", B35 IOUTCP (out) "C-Channel DAC current output. Connect directly to ground if unused.", B36 IOUTBP (out) "B-Channel DAC current output. Connect directly to ground if unused.", B37 IOUTBN (out) "B-Channel DAC complementary current output. Connect directly to ground if unused.", B38 IOUTAN (out) "A-Channel DAC complementary current output. Connect directly to ground if unused.", B39 IOUTAP (out) "A-Channel DAC current output. Connect directly to ground if unused.", B40 SLEEP (in) "Active high asynchronous hardware power-down input. Internal pull-down."
part B pins: A4 CLKVDD (power) "Internal clock buffer supply voltage. (1.2 V) It is recommended to isolate this supply from DIGVDD and DACVDD.", A6 DIGVDD (power) "Digital supply voltage. (1.2 V). It is recommended to isolate this supply from CLKVDD and DACVDD.", A9 DIGVDD (power) "Digital supply voltage. (1.2 V). It is recommended to isolate this supply from CLKVDD and DACVDD.", A17 IOVDD (power) "Supply voltage for all digital I/O. (3.3 V)", A25 DIGVDD (power) "Digital supply voltage. (1.2 V). It is recommended to isolate this supply from CLKVDD and DACVDD.", A28 DIGVDD (power) "Digital supply voltage. (1.2 V). It is recommended to isolate this supply from CLKVDD and DACVDD.", A35 DACVDD (power) "DAC core supply voltage. (1.2 V). It is recommended to isolate this supply from CLKVDD and DIGVDD.", A36 AVDD (power) "Analog supply voltage. (3.3 V)", A37 AVDD (power) "Analog supply voltage. (3.3 V)", A38 AVDD (power) "Analog supply voltage. (3.3 V)", A39 DACVDD (power) "DAC core supply voltage. (1.2 V). It is recommended to isolate this supply from CLKVDD and DIGVDD.", A40 AVDD (power) "Analog supply voltage. (3.3 V)", A41 AVDD (power) "Analog supply voltage. (3.3 V)", A42 AVDD (power) "Analog supply voltage. (3.3 V)", A43 DACVDD (power) "DAC core supply voltage. (1.2 V). It is recommended to isolate this supply from CLKVDD and DIGVDD.", B1 PLLAVDD (power) "PLL analog supply voltage. (3.3 V)", B4 VFUSE (power) "Digital supply voltage. This supply pin is also used for factory fuse programming. Connect to DACVDD for normal operation.", B6 IOVDD (power) "Supply voltage for all digital I/O. (3.3 V)", B25 IOVDD (power) "Supply voltage for all digital I/O. (3.3 V)", B31 AVDD (power) "Analog supply voltage. (3.3 V)", C1 GND (power) "These pins are ground for all supplies.", C2 GND (power) "These pins are ground for all supplies.", C3 GND (power) "These pins are ground for all supplies.", C4 GND (power) "These pins are ground for all supplies.", C5 GND (power) "These pins are ground for all supplies."